# Altium footprint library Connectors.PcbLib: 21 footprints (part 1 of 2)
Each footprint in its own frame and in the unit in brackets; x right, y up, seen from the top. Pads: shape width x height; smd on the part's side, far side on the other; paste and mask are expansions set on the pad; w line width, h text height; cw(c..) or ccw(c..) is an arc to the next point about the centre after c.
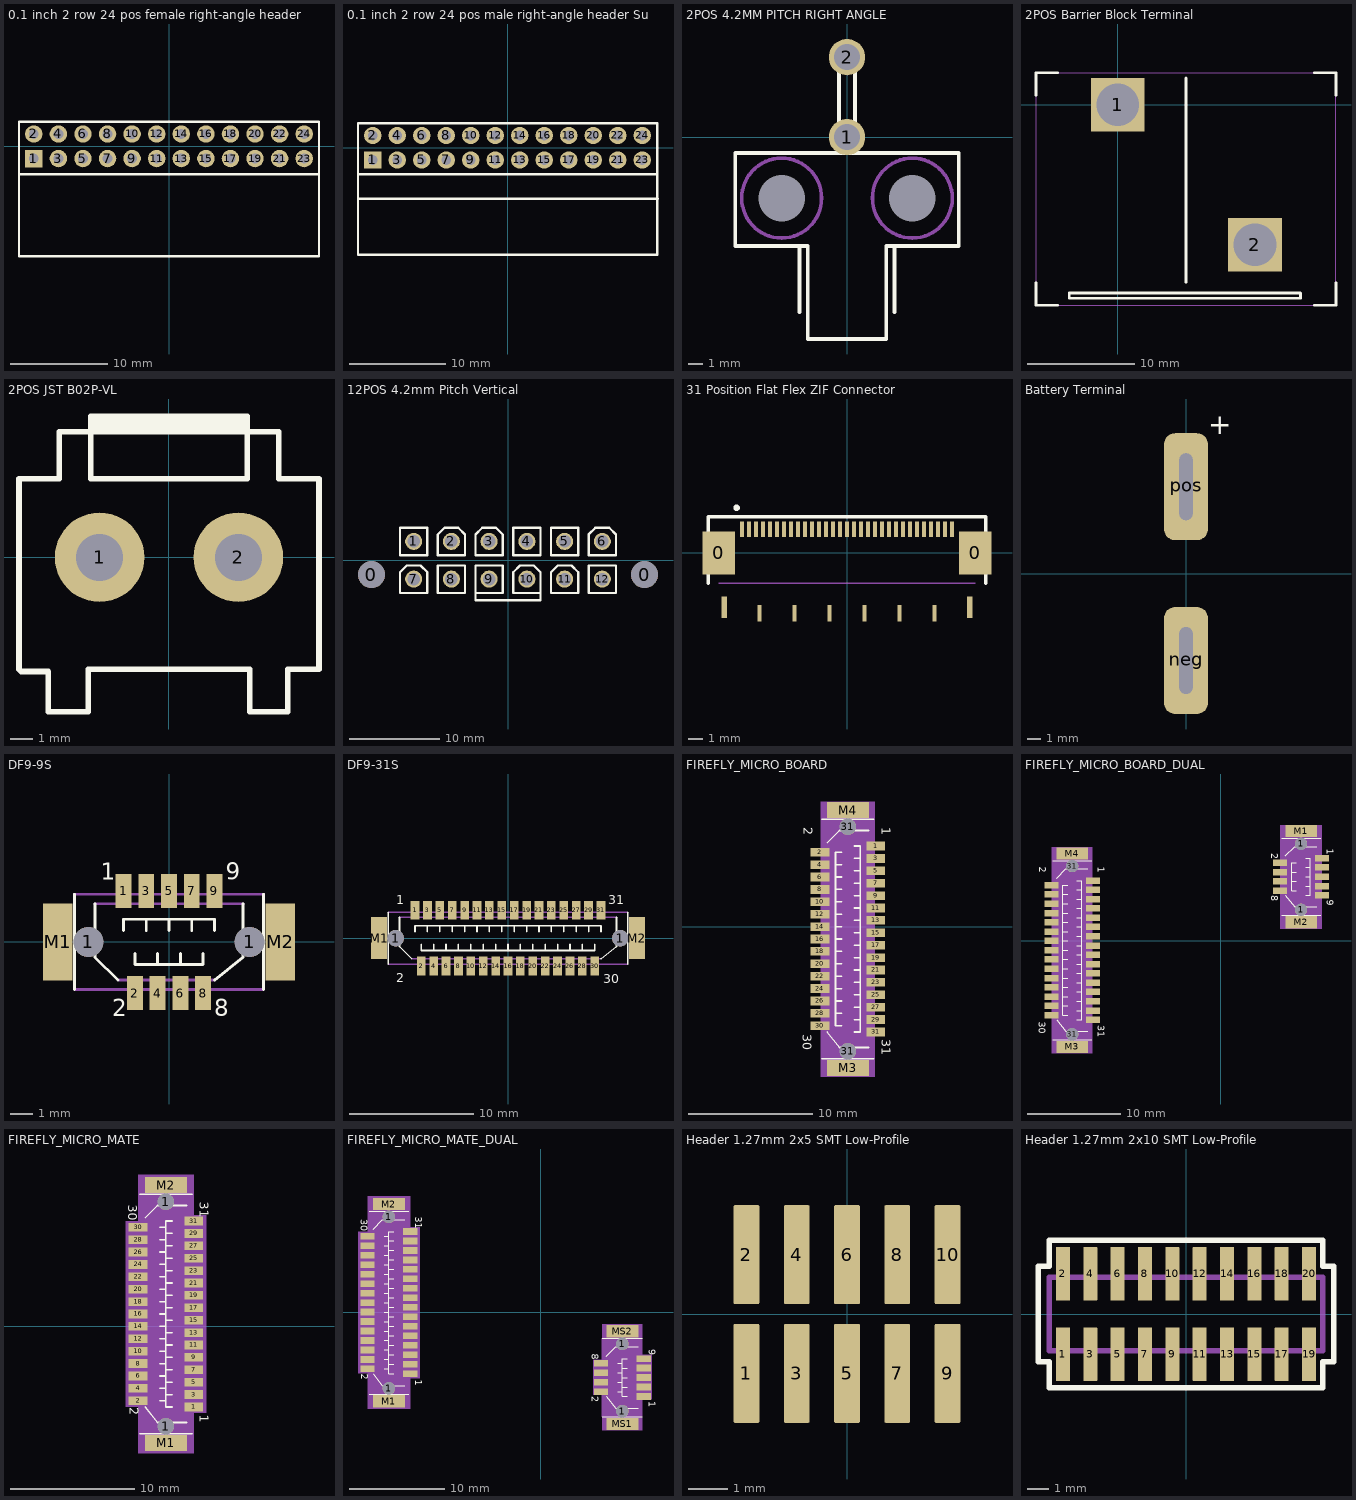
[diagram p0: the footprints below, top view; thin cyan lines are the x and y axes]

## 0.1 inch 2 row 24 pos female right-angle header Sullins [mm] "Sullins 0.1\" Dual row 24 position female right-angle header"
height 5.08
pads (24):
  rect 1.8x1.8 hole 1.02: 1(-13.97,-1.27)
  round 1.8 hole 1.02: 2(-13.97,1.27) 3(-11.43,-1.27) 4(-11.43,1.27) 5(-8.89,-1.27) 6(-8.89,1.27) 7(-6.35,-1.27) 8(-6.35,1.27) 9(-3.81,-1.27) 10(-3.81,1.27) 11(-1.27,-1.27) 12(-1.27,1.27) 13(1.27,-1.27) 14(1.27,1.27) 15(3.81,-1.27) 16(3.81,1.27) 17(6.35,-1.27) 18(6.35,1.27) 19(8.89,-1.27) 20(8.89,1.27) 21(11.43,-1.27) 22(11.43,1.27) 23(13.97,-1.27) 24(13.97,1.27)
Top Overlay:
  lines w0.254: -15.5,-2.87 15.5,-2.87 ; -15.5,-11.37 -15.5,2.54 15.5,2.54 15.5,-11.37 -15.5,-11.37
Mechanical 1:
  text "11.37MM / FROM / CENTER" at 2.235,-9.798 h1
3D body "sullins.step": height 5.08, standoff -3.15, extent -15.49,-11.34 15.49,1.5

## 0.1 inch 2 row 24 pos male right-angle header Sullins [mm] "Sullins 0.1\" Dual row 24 position male right-angle header"
height 5.08
pads (24):
  rect 1.8x1.8 hole 1.02: 1(-13.97,-1.27)
  round 1.8 hole 1.02: 2(-13.97,1.27) 3(-11.43,-1.27) 4(-11.43,1.27) 5(-8.89,-1.27) 6(-8.89,1.27) 7(-6.35,-1.27) 8(-6.35,1.27) 9(-3.81,-1.27) 10(-3.81,1.27) 11(-1.27,-1.27) 12(-1.27,1.27) 13(1.27,-1.27) 14(1.27,1.27) 15(3.81,-1.27) 16(3.81,1.27) 17(6.35,-1.27) 18(6.35,1.27) 19(8.89,-1.27) 20(8.89,1.27) 21(11.43,-1.27) 22(11.43,1.27) 23(13.97,-1.27) 24(13.97,1.27)
Top Overlay:
  lines w0.254: -15.5,-2.77 15.5,-2.77 ; -15.4,-5.29 15.6,-5.29 ; -15.5,-11.1 15.5,-11.1 15.5,2.54 -15.5,2.54 -15.5,-11.1
Mechanical 1:
  text "5.29MM / FROM / CENTER" at 2.235,-9.798 h1
3D body "PREC012DBAN-M71RC.STEP": height 5.04, standoff -3.01, extent -15.24,-11.12 15.24,1.6

## 2POS 4.2MM PITCH RIGHT ANGLE [mm] "2position 4.2mm picth right angle with screw support (TE 1586043-2)"
pads (4):
  round 0 hole 3.2 unplated: 0(-4.5,-4.2) 0(4.5,-4.2)
  round 2.5 hole 1.8: 1(0,0) 2(0,5.5)
Top Overlay:
  lines w0.254: -3.275,-12.061 -3.275,-7.5 ; -0.55,-1.1 -0.55,6.05 0.55,6.05 0.55,-1.1 ; 3.275,-12.061 3.275,-7.5 ; -7.7,-7.5 -2.7,-7.5 -2.7,-13.9 2.7,-13.9 2.7,-7.5 7.7,-7.5 7.7,-1.1 -7.7,-1.1 -7.7,-7.5
Mechanical 1:
  circle w0.254: c-4.5,-4.2 r2.75
  circle w0.254: c4.5,-4.2 r2.75
3D body "c-1586043-2-a-3d.stp": height 10.9, standoff -3.6, extent -7.7,-13.9 7.7,6.06

## 2POS Barrier Block Terminal [mm] "CONN BARRIER STRIP 2CIRC 0.5\""
height 21.6
pads (2):
  rect 5x5 hole 3.96: 1(0,0) 2(12.766,-13.018)
Top Overlay:
  lines w0.25: -7.6,-16.56 -7.6,-18.63 -5.6,-18.63 ; -7.6,0.9 -7.6,2.97 ; 6.35,-16.5 6.35,2.5 ; 18.3,-18.63 20.3,-18.63 20.3,-16.56 ; 18.3,2.97 20.3,2.97 20.3,0.9 ; -7.6,2.97 -5.6,2.97 -7.6,2.97 ; -4.5,-18 -4.5,-17.5 17,-17.5 17,-18 -4.5,-18
Mechanical 1:
  lines w0.1: -7.6,-18.63 -7.6,2.97 20.3,2.97 20.3,-18.63 -7.6,-18.63
3D body "386608802.stp": height 22.61, standoff -4.06, extent -7.64,-18.62 20.3,2.97

## 2POS JST B02P-VL [mm] "CONN HEADER 2POS VL SERIES TIN"
height 29
pads (2):
  round 4 hole 2.1: 1(-3.1,0) 2(3.1,0)
Top Overlay:
  lines w0.25: -3.5,5.9 3.5,5.9 3.5,5.8 ; -3.5,6.1 3.5,6.1 3.5,5.8 ; -3.5,5.6 -3.5,5.7 3.5,5.7 3.5,5.8 ; -3.5,5.6 3.5,5.6 ; -3.5,5.6 -3.5,6.3 3.5,6.3 3.5,5.6 ; -3.5,5.6 -3.5,3.5 3.5,3.5 3.5,5.6 ; -3.5,5.6 -4,5.6 -4.9,5.6 -4.9,3.5 -6.7,3.5 -6.7,-5 -6.6,-5.1 -6.1,-5.1 -5.4,-5.1 -5.4,-6.9 -3.6,-6.9 -3.6,-5 -0.8,-5 3.5,-5 3.6,-5 3.6,-5.3 3.6,-6.9 5.1,-6.9 5.3,-6.9 5.3,-5 6.7,-5 ; 3.5,5.6 4.4,5.6 4.9,5.6 4.9,3.5 6.7,3.5 ; 6.7,-5 6.7,-5 ; 6.7,-5 6.7,-4.4 6.7,3.5 ; 6.7,3.5 6.7,3.5
3D body "B02P-VL.STEP": height 16.4, standoff -3.6, extent -6.7,-6.9 6.7,6.3

## 12POS 4.2mm Pitch Vertical [mm] "TE Connectivity 1-1586586-2"
pads (14):
  round 3 hole 3 unplated: 0(-15.2,-1.6) 0(15.2,-1.6)
  round 1.9 hole 1.4: 1(-10.5,2.1) 2(-6.3,2.1) 3(-2.1,2.1) 4(2.1,2.1) 5(6.3,2.1) 6(10.5,2.1) 7(-10.5,-2.1) 8(-6.3,-2.1) 9(-2.1,-2.1) 10(2.1,-2.1) 11(6.3,-2.1) 12(10.5,-2.1)
Top Overlay:
  lines w0.254: -3.624,-3.633 -0.576,-3.633 -0.576,-0.585 -3.624,-0.585 -3.624,-4.445 3.624,-4.445 3.624,-1.338 2.871,-0.585 1.329,-0.585 0.576,-1.338 0.576,-3.633 3.624,-3.633 ; -12.024,-3.633 -8.976,-3.633 -8.976,-1.338 -9.729,-0.585 -11.271,-0.585 -12.024,-1.338 -12.024,-3.633 ; -12.024,0.567 -8.976,0.567 -8.976,3.615 -12.024,3.615 -12.024,0.567 ; -7.824,-3.633 -7.824,-0.585 -4.776,-0.585 -4.776,-3.633 -7.824,-3.633 ; -7.824,0.567 -7.824,2.862 -7.071,3.615 -5.529,3.615 -4.776,2.862 -4.776,0.567 -7.824,0.567 ; -3.624,0.567 -3.624,2.862 -2.871,3.615 -1.329,3.615 -0.576,2.862 -0.576,0.567 -3.624,0.567 ; 0.576,0.567 0.576,3.615 3.624,3.615 3.624,0.567 0.576,0.567 ; 4.776,-3.633 4.776,-1.338 5.529,-0.585 7.071,-0.585 7.824,-1.338 7.824,-3.633 4.776,-3.633 ; 4.776,0.567 4.776,3.615 7.824,3.615 7.824,0.567 4.776,0.567 ; 8.976,-3.633 8.976,-0.585 12.024,-0.585 12.024,-3.633 8.976,-3.633 ; 8.976,0.567 8.976,2.862 9.729,3.615 11.271,3.615 12.024,2.862 12.024,0.567 8.976,0.567
Mechanical 1:
  text "Conn. Mounts Upward" at -13.843,-6.604 h1.52

## 31 Position Flat Flex ZIF Connector [mm] "TE 3-1734839-1 31 Position Flat Flex ZIF Connector"
height 2.05
pads (41):
  rect 2.3x3.1 smd: 0(-9.15,0) 0(9.15,0)
  rect 0.4x1.55 smd mask+0.02: 0(-8.75,-3.875) 0(8.75,-3.875)
  rect 0.3x1.2 smd mask+0.02: 0(-6.25,-4.3) 0(-3.75,-4.3) 0(-1.25,-4.3) 0(1.25,-4.3) 0(3.75,-4.3) 0(6.25,-4.3)
  rect 0.3x1.1 smd mask+0.02: 1(-7.5,1.7) 2(-7,1.7) 3(-6.5,1.7) 4(-6,1.7) 5(-5.5,1.7) 6(-5,1.7) 7(-4.5,1.7) 8(-4,1.7) 9(-3.5,1.7) 10(-3,1.7) 11(-2.5,1.7) 12(-2,1.7) 13(-1.5,1.7) 14(-1,1.7) 15(-0.5,1.7) 16(0,1.7) 17(0.5,1.7) 18(1,1.7) 19(1.5,1.7) 20(2,1.7) 21(2.5,1.7) 22(3,1.7) 23(3.5,1.7) 24(4,1.7) 25(4.5,1.7) 26(5,1.7) 27(5.5,1.7) 28(6,1.7) 29(6.5,1.7) 30(7,1.7) 31(7.5,1.7)
Top Overlay:
  circle w0.254: c-7.874,3.224 r0.104
  lines w0.254: -9.906,-2.15 -9.906,2.589 9.906,2.589 9.906,-2.15
Mechanical 1:
  lines w0.1: -9.15,-2.15 9.15,-2.15
3D body "c-3-1734839-1-c-3d.stp": height 2, standoff -0.05, extent -10.466,-3.068 10.464,2.042

## Battery Terminal [mm] "Battery terminal for the firefly case"
pads (2):
  rrect50% 3.3x8 hole 1 slot 5 at 90 deg: neg(0,-6.5) pos(0,6.5)
Top Overlay:
  text "+" at 1.651,10.414 h1.52

## DF9-9S [mil]
pads (13):
  round 52 hole 52: 1(-139.76,0) 1(139.76,0)
  rect 27.56x59.06 smd: 1(-78.74,88.58) 2(-59.06,-88.58) 3(-39.37,88.58) 4(-19.69,-88.58) 5(0,88.58) 6(19.69,-88.58) 7(39.37,88.58) 8(59.06,-88.58) 9(78.74,88.58)
  rect 51.18x133.86 smd: M1(-192.91,0) M2(192.91,0)
Top Overlay:
  lines w5: -163.39,-82.68 -163.39,82.68 ; -127.95,66.14 -127.95,-26.77 -88.58,-66.14 ; -78.74,19.69 -78.74,39.37 -39.37,39.37 ; -59.06,-19.69 -59.06,-39.37 -19.69,-39.37 ; -39.37,19.69 -39.37,39.37 ; -19.69,-19.69 -19.69,-39.37 ; 0,19.69 0,39.37 ; 19.69,-19.69 19.69,-39.37 ; 39.37,19.69 39.37,39.37 ; 59.06,-19.69 59.06,-39.37 19.69,-39.37 ; 78.74,-66.14 127.95,-26.77 127.95,66.14 ; 78.74,19.69 78.74,39.37 39.37,39.37 ; 163.39,-82.68 163.39,82.68 ; -39.37,39.37 0,39.37 ; -19.69,-39.37 19.69,-39.37 ; 0,39.37 39.37,39.37
  text "1" at -118.11,98.43 h49.6
  text "2" at -98.43,-137.8 h49.6
  text "8" at 78.74,-137.8 h49.6
  text "9" at 98.43,98.43 h49.6
Mechanical 16:
  lines w5: -163.39,-82.68 163.39,-82.68 ; -163.39,82.68 163.39,82.68 ; -127.95,66.14 127.95,66.14 ; -88.58,-66.14 78.74,-66.14

## DF9-31S [mm]
pads (35):
  round 1.321 hole 1.321: 1(-9.05,0) 1(9.05,0)
  rect 0.7x1.5 smd: 1(-7.5,2.25) 2(-7,-2.25) 3(-6.5,2.25) 4(-6,-2.25) 5(-5.5,2.25) 6(-5,-2.25) 7(-4.5,2.25) 8(-4,-2.25) 9(-3.5,2.25) 10(-3,-2.25) 11(-2.5,2.25) 12(-2,-2.25) 13(-1.5,2.25) 14(-1,-2.25) 15(-0.5,2.25) 16(0,-2.25) 17(0.5,2.25) 18(1,-2.25) 19(1.5,2.25) 20(2,-2.25) 21(2.5,2.25) 22(3,-2.25) 23(3.5,2.25) 24(4,-2.25) 25(4.5,2.25) 26(5,-2.25) 27(5.5,2.25) 28(6,-2.25) 29(6.5,2.25) 30(7,-2.25) 31(7.5,2.25)
  rect 1.3x3.4 smd: M1(-10.4,0) M2(10.4,0)
Top Overlay:
  lines w0.127: -9.65,-2.1 -9.65,2.1 ; -8.75,1.68 -8.75,-0.68 -7.75,-1.68 ; -7.5,0.5 -7.5,1 -6.5,1 ; -7,-0.5 -7,-1 -6,-1 ; -6.5,0.5 -6.5,1 ; -6,-0.5 -6,-1 ; -5.5,0.5 -5.5,1 ; -5,-0.5 -5,-1 ; -4.5,0.5 -4.5,1 ; -4,-0.5 -4,-1 ; -3.5,0.5 -3.5,1 ; -3,-0.5 -3,-1 ; -2.5,0.5 -2.5,1 ; -2,-0.5 -2,-1 ; -1.5,0.5 -1.5,1 ; -1,-0.5 -1,-1 ; -0.5,0.5 -0.5,1 ; 0,-0.5 0,-1 ; 0.5,0.5 0.5,1 ; 1,-0.5 1,-1 ; 1.5,0.5 1.5,1 ; 2,-0.5 2,-1 ; 2.5,0.5 2.5,1 ; 3,-0.5 3,-1 ; 3.5,0.5 3.5,1 ; 4,-0.5 4,-1 ; 4.5,0.5 4.5,1 ; 5,-0.5 5,-1 ; 5.5,0.5 5.5,1 ; 6,-0.5 6,-1 ; 6.5,0.5 6.5,1 ; 7,-0.5 7,-1 6,-1 ; 7.5,-1.68 8.75,-0.68 8.75,1.68 ; 7.5,0.5 7.5,1 6.5,1 ; 9.65,-2.1 9.65,2.1 ; -6.5,1 -5.5,1 ; -6,-1 -5,-1 ; -5.5,1 -4.5,1 ; -5,-1 -4,-1 ; -4.5,1 -3.5,1 ; -4,-1 -3,-1 ; -3.5,1 -2.5,1 ; -3,-1 -2,-1 ; -2.5,1 -1.5,1 ; -2,-1 -1,-1 ; -1.5,1 -0.5,1 ; -1,-1 0,-1 ; -0.5,1 0.5,1 ; 0,-1 1,-1 ; 0.5,1 1.5,1 ; 1,-1 2,-1 ; 1.5,1 2.5,1 ; 2,-1 3,-1 ; 2.5,1 3.5,1 ; 3,-1 4,-1 ; 3.5,1 4.5,1 ; 4,-1 5,-1 ; 4.5,1 5.5,1 ; 5,-1 6,-1 ; 5.5,1 6.5,1
  text "31" at 8.1,2.5 h1.26
  text "30" at 7.7,-3.9 h1.26
  text "2" at -9,-3.8 h1.26
  text "1" at -9,2.5 h1.26
Mechanical 16:
  lines w0.127: -9.65,-2.1 9.65,-2.1 ; -9.65,2.1 9.65,2.1 ; -8.75,1.68 8.75,1.68 ; -7.75,-1.68 7.5,-1.68

## FIREFLY_MICRO_BOARD [mil]
pads (35):
  rect 59.06x27.56 smd: 1(-541.67,255.86) 2(-718.83,236.17) 3(-541.67,216.49) 4(-718.83,196.8) 5(-541.67,177.12) 6(-718.83,157.43) 7(-541.67,137.75) 8(-718.83,118.06) 9(-541.67,98.38) 10(-718.83,78.69) 11(-541.67,59.01) 12(-718.83,39.32) 13(-541.67,19.64) 14(-718.83,-0.05) 15(-541.67,-19.73) 16(-718.83,-39.42) 17(-541.67,-59.1) 18(-718.83,-78.79) 19(-541.67,-98.47) 20(-718.83,-118.16) 21(-541.67,-137.84) 22(-718.83,-157.53) 23(-541.67,-177.21) 24(-718.83,-196.9) 25(-541.67,-216.58) 26(-718.83,-236.27) 27(-541.67,-255.95) 28(-718.83,-275.64) 29(-541.67,-295.32) 30(-718.83,-315.01) 31(-541.67,-334.69)
  round 52 hole 52: 31(-630.25,-395.72) 31(-630.25,316.88)
  rect 133.86x51.18 smd: M3(-630.25,-448.87) M4(-630.25,370.03)
Top Overlay:
  lines w5: -712.93,-419.34 -547.57,-419.34 ; -712.93,340.5 -547.57,340.5 ; -696.39,-334.69 -657.02,-383.91 -564.11,-383.91 ; -696.39,265.7 -657.02,305.07 -564.11,305.07 ; -649.94,-315.01 -669.62,-315.01 -669.62,-275.64 ; -649.94,-275.64 -669.62,-275.64 ; -649.94,-236.27 -669.62,-236.27 ; -649.94,-196.9 -669.62,-196.9 ; -649.94,-157.53 -669.62,-157.53 ; -649.94,-118.16 -669.62,-118.16 ; -649.94,-78.79 -669.62,-78.79 ; -649.94,-39.42 -669.62,-39.42 ; -649.94,-0.05 -669.62,-0.05 ; -649.94,39.32 -669.62,39.32 ; -649.94,78.69 -669.62,78.69 ; -649.94,118.06 -669.62,118.06 ; -649.94,157.43 -669.62,157.43 ; -649.94,196.8 -669.62,196.8 ; -649.94,236.17 -669.62,236.17 -669.62,196.8 ; -610.57,-334.69 -590.88,-334.69 -590.88,-295.32 ; -610.57,-295.32 -590.88,-295.32 ; -610.57,-255.95 -590.88,-255.95 ; -610.57,-216.58 -590.88,-216.58 ; -610.57,-177.21 -590.88,-177.21 ; -610.57,-137.84 -590.88,-137.84 ; -610.57,-98.47 -590.88,-98.47 ; -610.57,-59.1 -590.88,-59.1 ; -610.57,-19.73 -590.88,-19.73 ; -610.57,19.64 -590.88,19.64 ; -610.57,59.01 -590.88,59.01 ; -610.57,98.38 -590.88,98.38 ; -610.57,137.75 -590.88,137.75 ; -610.57,177.12 -590.88,177.12 ; -610.57,216.49 -590.88,216.49 ; -610.57,255.86 -590.88,255.86 -590.88,216.49 ; -669.62,-275.64 -669.62,-236.27 ; -669.62,-236.27 -669.62,-196.9 ; -669.62,-196.9 -669.62,-157.53 ; -669.62,-157.53 -669.62,-118.16 ; -669.62,-118.16 -669.62,-78.79 ; -669.62,-78.79 -669.62,-39.42 ; -669.62,-39.42 -669.62,-0.05 ; -669.62,-0.05 -669.62,39.32 ; -669.62,39.32 -669.62,78.69 ; -669.62,78.69 -669.62,118.06 ; -669.62,118.06 -669.62,157.43 ; -669.62,157.43 -669.62,196.8 ; -590.88,-295.32 -590.88,-255.95 ; -590.88,-255.95 -590.88,-216.58 ; -590.88,-216.58 -590.88,-177.21 ; -590.88,-177.21 -590.88,-137.84 ; -590.88,-137.84 -590.88,-98.47 ; -590.88,-98.47 -590.88,-59.1 ; -590.88,-59.1 -590.88,-19.73 ; -590.88,-19.73 -590.88,19.64 ; -590.88,19.64 -590.88,59.01 ; -590.88,59.01 -590.88,98.38 ; -590.88,98.38 -590.88,137.75 ; -590.88,137.75 -590.88,177.12 ; -590.88,177.12 -590.88,216.49
  text "1" at -531.83,314.91 h49.6
  text "2" at -779.86,314.91 h49.6
  text "30" at -783.8,-342.57 h49.6
  text "31" at -531.83,-358.32 h49.6
Mechanical 16:
  lines w5: -712.93,-419.34 -712.93,340.5 ; -696.39,-334.69 -696.39,265.7 ; -564.11,-383.91 -564.11,305.07 ; -547.57,-419.34 -547.57,340.5
Mechanical 27:
  rectangle: -717.24,-477.02 -544.01,396.99
3D body "DF9-31S-1V.stp": height 129.92, standoff -31.5, extent -740.49,-453.87 -520.02,376.84

## FIREFLY_MICRO_BOARD_DUAL [mil]
pads (48):
  rect 59.06x27.56 smd: 1(-541.67,255.86) 2(-718.83,236.17) 3(-541.67,216.49) 4(-718.83,196.8) 5(-541.67,177.12) 6(-718.83,157.43) 7(-541.67,137.75) 8(-718.83,118.06) 9(-541.67,98.38) 10(-718.83,78.69) 11(-541.67,59.01) 12(-718.83,39.32) 13(-541.67,19.64) 14(-718.83,-0.05) 15(-541.67,-19.73) 16(-718.83,-39.42) 17(-541.67,-59.1) 18(-718.83,-78.79) 19(-541.67,-98.47) 20(-718.83,-118.16) 21(-541.67,-137.84) 22(-718.83,-157.53) 23(-541.67,-177.21) 24(-718.83,-196.9) 25(-541.67,-216.58) 26(-718.83,-236.27) 27(-541.67,-255.95) 28(-718.83,-275.64) 29(-541.67,-295.32) 30(-718.83,-315.01) 31(-541.67,-334.69) P1(428.11,350.66) P2(250.94,330.98) P3(428.11,311.29) P4(250.94,291.61) P5(428.11,271.92) P6(250.94,252.24) P7(428.11,232.55) P8(250.94,212.87) P9(428.11,193.18)
  round 52 hole 52: 1(339.53,132.16) 1(339.53,411.69) 31(-630.25,-395.72) 31(-630.25,316.88)
  rect 133.86x51.18 smd: M1(339.53,464.83) M2(339.53,79.01) M3(-630.25,-448.87) M4(-630.25,370.03)
Top Overlay:
  lines w5: -712.93,-419.34 -547.57,-419.34 ; -712.93,340.5 -547.57,340.5 ; -696.39,-334.69 -657.02,-383.91 -564.11,-383.91 ; -696.39,265.7 -657.02,305.07 -564.11,305.07 ; -649.94,-315.01 -669.62,-315.01 -669.62,-275.64 ; -649.94,-275.64 -669.62,-275.64 ; -649.94,-236.27 -669.62,-236.27 ; -649.94,-196.9 -669.62,-196.9 ; -649.94,-157.53 -669.62,-157.53 ; -649.94,-118.16 -669.62,-118.16 ; -649.94,-78.79 -669.62,-78.79 ; -649.94,-39.42 -669.62,-39.42 ; -649.94,-0.05 -669.62,-0.05 ; -649.94,39.32 -669.62,39.32 ; -649.94,78.69 -669.62,78.69 ; -649.94,118.06 -669.62,118.06 ; -649.94,157.43 -669.62,157.43 ; -649.94,196.8 -669.62,196.8 ; -649.94,236.17 -669.62,236.17 -669.62,196.8 ; -610.57,-334.69 -590.88,-334.69 -590.88,-295.32 ; -610.57,-295.32 -590.88,-295.32 ; -610.57,-255.95 -590.88,-255.95 ; -610.57,-216.58 -590.88,-216.58 ; -610.57,-177.21 -590.88,-177.21 ; -610.57,-137.84 -590.88,-137.84 ; -610.57,-98.47 -590.88,-98.47 ; -610.57,-59.1 -590.88,-59.1 ; -610.57,-19.73 -590.88,-19.73 ; -610.57,19.64 -590.88,19.64 ; -610.57,59.01 -590.88,59.01 ; -610.57,98.38 -590.88,98.38 ; -610.57,137.75 -590.88,137.75 ; -610.57,177.12 -590.88,177.12 ; -610.57,216.49 -590.88,216.49 ; -610.57,255.86 -590.88,255.86 -590.88,216.49 ; 256.85,108.54 422.2,108.54 ; 256.85,435.31 422.2,435.31 ; 273.39,193.18 312.76,143.97 405.67,143.97 ; 273.39,360.5 312.76,399.87 405.67,399.87 ; 319.84,212.87 300.16,212.87 300.16,252.24 ; 319.84,252.24 300.16,252.24 ; 319.84,291.61 300.16,291.61 ; 319.84,330.98 300.16,330.98 300.16,291.61 ; 359.21,193.18 378.9,193.18 378.9,232.55 ; 359.21,232.55 378.9,232.55 ; 359.21,271.92 378.9,271.92 ; 359.21,311.29 378.9,311.29 ; 359.21,350.66 378.9,350.66 378.9,311.29 ; -669.62,-275.64 -669.62,-236.27 ; -669.62,-236.27 -669.62,-196.9 ; -669.62,-196.9 -669.62,-157.53 ; -669.62,-157.53 -669.62,-118.16 ; -669.62,-118.16 -669.62,-78.79 ; -669.62,-78.79 -669.62,-39.42 ; -669.62,-39.42 -669.62,-0.05 ; -669.62,-0.05 -669.62,39.32 ; -669.62,39.32 -669.62,78.69 ; -669.62,78.69 -669.62,118.06 ; -669.62,118.06 -669.62,157.43 ; -669.62,157.43 -669.62,196.8 ; -590.88,-295.32 -590.88,-255.95 ; -590.88,-255.95 -590.88,-216.58 ; -590.88,-216.58 -590.88,-177.21 ; -590.88,-177.21 -590.88,-137.84 ; -590.88,-137.84 -590.88,-98.47 ; -590.88,-98.47 -590.88,-59.1 ; -590.88,-59.1 -590.88,-19.73 ; -590.88,-19.73 -590.88,19.64 ; -590.88,19.64 -590.88,59.01 ; -590.88,59.01 -590.88,98.38 ; -590.88,98.38 -590.88,137.75 ; -590.88,137.75 -590.88,177.12 ; -590.88,177.12 -590.88,216.49 ; 300.16,252.24 300.16,291.61 ; 378.9,232.55 378.9,271.92 ; 378.9,271.92 378.9,311.29
  text "1" at -531.83,314.91 h49.6
  text "2" at -779.86,314.91 h49.6
  text "30" at -783.8,-342.57 h49.6
  text "31" at -531.83,-358.32 h49.6
  text "1" at 437.95,390.03 h49.6
  text "2" at 201.73,370.35 h49.6
  text "8" at 201.73,193.18 h49.6
  text "9" at 437.95,173.5 h49.6
Mechanical 16:
  lines w5: -712.93,-419.34 -712.93,340.5 ; -696.39,-334.69 -696.39,265.7 ; -564.11,-383.91 -564.11,305.07 ; -547.57,-419.34 -547.57,340.5 ; 256.85,108.54 256.85,435.31 ; 273.39,193.18 273.39,360.5 ; 405.67,143.97 405.67,399.87 ; 422.2,108.54 422.2,435.31
Mechanical 27:
  rectangle: -717.24,-477.02 -544.01,396.99
  rectangle: 251.27,50.54 428.43,491.48
3D body "DF9-31S-1V.stp": height 129.92, standoff -31.5, extent -740.47,-455.36 -520,375.36
3D body "DF9-9S-1V.stp": height 129.92, standoff -39.37, extent 230,72.36 450.47,470

## FIREFLY_MICRO_MATE [mil]
pads (35):
  round 52 hole 52: 1(-630.25,-316.8) 1(-630.25,395.8)
  rect 59.06x27.56 smd: 1(-541.67,-255.78) 2(-718.83,-236.09) 3(-541.67,-216.41) 4(-718.83,-196.72) 5(-541.67,-177.04) 6(-718.83,-157.35) 7(-541.67,-137.67) 8(-718.83,-117.98) 9(-541.67,-98.3) 10(-718.83,-78.61) 11(-541.67,-58.93) 12(-718.83,-39.24) 13(-541.67,-19.56) 14(-718.83,0.13) 15(-541.67,19.81) 16(-718.83,39.5) 17(-541.67,59.18) 18(-718.83,78.87) 19(-541.67,98.55) 20(-718.83,118.24) 21(-541.67,137.92) 22(-718.83,157.61) 23(-541.67,177.29) 24(-718.83,196.98) 25(-541.67,216.66) 26(-718.83,236.35) 27(-541.67,256.03) 28(-718.83,275.72) 29(-541.67,295.4) 30(-718.83,315.09) 31(-541.67,334.77)
  rect 133.86x51.18 smd: M1(-630.25,-369.95) M2(-630.25,448.94)
Top Overlay:
  lines w5: -712.93,-340.43 -547.57,-340.43 ; -712.93,419.42 -547.57,419.42 ; -696.39,-255.78 -657.02,-304.99 -564.11,-304.99 ; -696.39,344.61 -657.02,383.98 -564.11,383.98 ; -649.94,-236.09 -630.25,-236.09 ; -649.94,-196.72 -630.25,-196.72 ; -649.94,-157.35 -630.25,-157.35 ; -649.94,-117.98 -630.25,-117.98 ; -649.94,-78.61 -630.25,-78.61 ; -649.94,-39.24 -630.25,-39.24 ; -649.94,0.13 -630.25,0.13 ; -649.94,39.5 -630.25,39.5 ; -649.94,78.87 -630.25,78.87 ; -649.94,118.24 -630.25,118.24 ; -649.94,157.61 -630.25,157.61 ; -649.94,196.98 -630.25,196.98 ; -649.94,236.35 -630.25,236.35 ; -649.94,275.72 -630.25,275.72 ; -649.94,315.09 -630.25,315.09 ; -610.57,-255.78 -630.25,-255.78 -630.25,-236.09 ; -610.57,-216.41 -630.25,-216.41 ; -610.57,-177.04 -630.25,-177.04 ; -610.57,-137.67 -630.25,-137.67 ; -610.57,-98.3 -630.25,-98.3 ; -610.57,-58.93 -630.25,-58.93 ; -610.57,-19.56 -630.25,-19.56 ; -610.57,19.81 -630.25,19.81 ; -610.57,59.18 -630.25,59.18 ; -610.57,98.55 -630.25,98.55 ; -610.57,137.92 -630.25,137.92 ; -610.57,177.29 -630.25,177.29 ; -610.57,216.66 -630.25,216.66 ; -610.57,256.03 -630.25,256.03 ; -610.57,295.4 -630.25,295.4 ; -610.57,334.77 -630.25,334.77 -630.25,315.09 ; -630.25,-236.09 -630.25,-216.41 ; -630.25,-216.41 -630.25,-196.72 ; -630.25,-196.72 -630.25,-177.04 ; -630.25,-177.04 -630.25,-157.35 ; -630.25,-157.35 -630.25,-137.67 ; -630.25,-137.67 -630.25,-117.98 ; -630.25,-117.98 -630.25,-98.3 ; -630.25,-98.3 -630.25,-78.61 ; -630.25,-78.61 -630.25,-58.93 ; -630.25,-58.93 -630.25,-39.24 ; -630.25,-39.24 -630.25,-19.56 ; -630.25,-19.56 -630.25,0.13 ; -630.25,0.13 -630.25,19.81 ; -630.25,19.81 -630.25,39.5 ; -630.25,39.5 -630.25,59.18 ; -630.25,59.18 -630.25,78.87 ; -630.25,78.87 -630.25,98.55 ; -630.25,98.55 -630.25,118.24 ; -630.25,118.24 -630.25,137.92 ; -630.25,137.92 -630.25,157.61 ; -630.25,157.61 -630.25,177.29 ; -630.25,177.29 -630.25,196.98 ; -630.25,196.98 -630.25,216.66 ; -630.25,216.66 -630.25,236.35 ; -630.25,236.35 -630.25,256.03 ; -630.25,256.03 -630.25,275.72 ; -630.25,275.72 -630.25,295.4 ; -630.25,295.4 -630.25,315.09
  text "31" at -531.83,395.6 h49.6
  text "30" at -758.8,386.35 h49.6
  text "2" at -754.86,-256.17 h49.6
  text "1" at -531.83,-281.17 h49.6
Mechanical 16:
  lines w5: -712.93,-340.43 -712.93,419.42 ; -696.39,-255.78 -696.39,344.61 ; -564.11,-304.99 -564.11,383.98 ; -547.57,-340.43 -547.57,419.42
Mechanical 27:
  rectangle: -541.34,-275.55 -501.97,354.37
  rectangle: -757.87,-255.87 -718.5,334.69
  rectangle: -718.5,-403.5 -541.34,482.32
3D body "DF9-31P-1V.stp": height 129.92, standoff -31.5, extent -740.24,-375.71 -519.76,455

## FIREFLY_MICRO_MATE_DUAL [mil]
pads (48):
  round 52 hole 52: 1(-630.25,-316.8) 1(-630.25,395.8) 1(339.53,-411.61) 1(339.53,-132.08)
  rect 59.06x27.56 smd: 1(-541.67,-255.78) 2(-718.83,-236.09) 3(-541.67,-216.41) 4(-718.83,-196.72) 5(-541.67,-177.04) 6(-718.83,-157.35) 7(-541.67,-137.67) 8(-718.83,-117.98) 9(-541.67,-98.3) 10(-718.83,-78.61) 11(-541.67,-58.93) 12(-718.83,-39.24) 13(-541.67,-19.56) 14(-718.83,0.13) 15(-541.67,19.81) 16(-718.83,39.5) 17(-541.67,59.18) 18(-718.83,78.87) 19(-541.67,98.55) 20(-718.83,118.24) 21(-541.67,137.92) 22(-718.83,157.61) 23(-541.67,177.29) 24(-718.83,196.98) 25(-541.67,216.66) 26(-718.83,236.35) 27(-541.67,256.03) 28(-718.83,275.72) 29(-541.67,295.4) 30(-718.83,315.09) 31(-541.67,334.77) S1(428.11,-350.58) S2(250.94,-330.9) S3(428.11,-311.21) S4(250.94,-291.53) S5(428.11,-271.84) S6(250.94,-252.16) S7(428.11,-232.47) S8(250.94,-212.79) S9(428.11,-193.1)
  rect 133.86x51.18 smd: M1(-630.25,-369.95) M2(-630.25,448.94) MS1(339.53,-464.76) MS2(339.53,-78.93)
Top Overlay:
  lines w5: -712.93,-340.43 -547.57,-340.43 ; -712.93,419.42 -547.57,419.42 ; -696.39,-255.78 -657.02,-304.99 -564.11,-304.99 ; -696.39,344.61 -657.02,383.98 -564.11,383.98 ; -649.94,-236.09 -630.25,-236.09 ; -649.94,-196.72 -630.25,-196.72 ; -649.94,-157.35 -630.25,-157.35 ; -649.94,-117.98 -630.25,-117.98 ; -649.94,-78.61 -630.25,-78.61 ; -649.94,-39.24 -630.25,-39.24 ; -649.94,0.13 -630.25,0.13 ; -649.94,39.5 -630.25,39.5 ; -649.94,78.87 -630.25,78.87 ; -649.94,118.24 -630.25,118.24 ; -649.94,157.61 -630.25,157.61 ; -649.94,196.98 -630.25,196.98 ; -649.94,236.35 -630.25,236.35 ; -649.94,275.72 -630.25,275.72 ; -649.94,315.09 -630.25,315.09 ; -610.57,-255.78 -630.25,-255.78 -630.25,-236.09 ; -610.57,-216.41 -630.25,-216.41 ; -610.57,-177.04 -630.25,-177.04 ; -610.57,-137.67 -630.25,-137.67 ; -610.57,-98.3 -630.25,-98.3 ; -610.57,-58.93 -630.25,-58.93 ; -610.57,-19.56 -630.25,-19.56 ; -610.57,19.81 -630.25,19.81 ; -610.57,59.18 -630.25,59.18 ; -610.57,98.55 -630.25,98.55 ; -610.57,137.92 -630.25,137.92 ; -610.57,177.29 -630.25,177.29 ; -610.57,216.66 -630.25,216.66 ; -610.57,256.03 -630.25,256.03 ; -610.57,295.4 -630.25,295.4 ; -610.57,334.77 -630.25,334.77 -630.25,315.09 ; 256.85,-435.23 422.2,-435.23 ; 256.85,-108.46 422.2,-108.46 ; 273.39,-350.58 312.76,-399.8 405.67,-399.8 ; 273.39,-183.26 312.76,-143.89 405.67,-143.89 ; 319.84,-330.9 339.53,-330.9 ; 319.84,-291.53 339.53,-291.53 ; 319.84,-252.16 339.53,-252.16 ; 319.84,-212.79 339.53,-212.79 ; 359.21,-350.58 339.53,-350.58 339.53,-330.9 ; 359.21,-311.21 339.53,-311.21 ; 359.21,-271.84 339.53,-271.84 ; 359.21,-232.47 339.53,-232.47 ; 359.21,-193.1 339.53,-193.1 339.53,-212.79 ; -630.25,-236.09 -630.25,-216.41 ; -630.25,-216.41 -630.25,-196.72 ; -630.25,-196.72 -630.25,-177.04 ; -630.25,-177.04 -630.25,-157.35 ; -630.25,-157.35 -630.25,-137.67 ; -630.25,-137.67 -630.25,-117.98 ; -630.25,-117.98 -630.25,-98.3 ; -630.25,-98.3 -630.25,-78.61 ; -630.25,-78.61 -630.25,-58.93 ; -630.25,-58.93 -630.25,-39.24 ; -630.25,-39.24 -630.25,-19.56 ; -630.25,-19.56 -630.25,0.13 ; -630.25,0.13 -630.25,19.81 ; -630.25,19.81 -630.25,39.5 ; -630.25,39.5 -630.25,59.18 ; -630.25,59.18 -630.25,78.87 ; -630.25,78.87 -630.25,98.55 ; -630.25,98.55 -630.25,118.24 ; -630.25,118.24 -630.25,137.92 ; -630.25,137.92 -630.25,157.61 ; -630.25,157.61 -630.25,177.29 ; -630.25,177.29 -630.25,196.98 ; -630.25,196.98 -630.25,216.66 ; -630.25,216.66 -630.25,236.35 ; -630.25,236.35 -630.25,256.03 ; -630.25,256.03 -630.25,275.72 ; -630.25,275.72 -630.25,295.4 ; -630.25,295.4 -630.25,315.09 ; 339.53,-330.9 339.53,-311.21 ; 339.53,-311.21 339.53,-291.53 ; 339.53,-291.53 339.53,-271.84 ; 339.53,-271.84 339.53,-252.16 ; 339.53,-252.16 339.53,-232.47 ; 339.53,-232.47 339.53,-212.79
  text "1" at -531.83,-281.17 h49.6
  text "2" at -754.86,-256.17 h49.6
  text "30" at -758.8,386.35 h49.6
  text "31" at -531.83,395.6 h49.6
  text "1" at 437.95,-370.27 h49.6
  text "2" at 201.73,-350.58 h49.6
  text "8" at 201.73,-173.42 h49.6
  text "9" at 437.95,-153.73 h49.6
Mechanical 16:
  lines w5: -712.93,-340.43 -712.93,419.42 ; -696.39,-255.78 -696.39,344.61 ; -564.11,-304.99 -564.11,383.98 ; -547.57,-340.43 -547.57,419.42 ; 256.85,-435.23 256.85,-108.46 ; 273.39,-350.58 273.39,-183.26 ; 405.67,-399.8 405.67,-143.89 ; 422.2,-435.23 422.2,-108.46
Mechanical 27:
  rectangle: -718.5,-403.5 -541.34,482.32
  rectangle: -757.87,-255.87 -718.5,334.69
  rectangle: -541.34,-275.55 -501.97,354.37
  rectangle: 255.91,-492.09 423.23,-49.17
  rectangle: 216.54,-344.45 255.91,-196.81
  rectangle: 423.23,-364.13 462.6,-177.13
3D body "DF9-31P-1V.stp": height 129.92, standoff -31.5, extent -740.24,-375.71 -519.76,455
3D body "DF9-9P-1V.stp": height 129.92, standoff -39.37, extent 230,-472.63 450.47,-75

## Header 1.27mm 2x5 SMT Low-Profile [mm] "Header 1.27mm 5x2 SMD"
height 4.5
pads (10):
  rrect10% 0.65x2.5 smd: 1(-2.54,-1.5) 2(-2.54,1.5) 3(-1.27,-1.5) 4(-1.27,1.5) 5(0,-1.5) 6(0,1.5) 7(1.27,-1.5) 8(1.27,1.5) 9(2.54,-1.5) 10(2.54,1.5)
3D body "20021121-00010XXLFc.stp": height 4.48, standoff -0.02, extent -3.175,-2.75 3.175,2.75

## Header 1.27mm 2x10 SMT Low-Profile [mm] "Samtec FTS-110-01-F-DV 1.27mm surface mount header with 20 positions"
pads (20):
  rrect10% 0.65x2.5 smd mask+0.05: 1(-5.715,-1.867) 2(-5.715,1.867) 3(-4.445,-1.867) 4(-4.445,1.867) 5(-3.175,-1.867) 6(-3.175,1.867) 7(-1.905,-1.867) 8(-1.905,1.867) 9(-0.635,-1.867) 10(-0.635,1.867) 11(0.635,-1.867) 12(0.635,1.867) 13(1.905,-1.867) 14(1.905,1.867) 15(3.175,-1.867) 16(3.175,1.867) 17(4.445,-1.867) 18(4.445,1.867) 19(5.715,-1.867) 20(5.715,1.867)
Top Overlay:
  lines w0.254: -6.858,-2.21 -6.339,-2.21 -6.339,-3.429 6.339,-3.429 6.339,-2.215 6.85,-2.215 6.85,2.215 6.339,2.215 6.339,3.429 -6.339,3.429 -6.339,2.215 -6.858,2.215 -6.858,-2.21
Mechanical 1:
  lines w0.254: -5.715,-2.92 -5.715,-1.715 ; -5.715,1.715 -5.715,2.92 ; -4.445,-2.92 -4.445,-1.715 ; -4.445,1.715 -4.445,2.92 ; -3.175,-2.92 -3.175,-1.715 ; -3.175,1.715 -3.175,2.92 ; -1.905,-2.92 -1.905,-1.715 ; -1.905,1.715 -1.905,2.92 ; -0.635,-2.92 -0.635,-1.715 ; -0.635,1.715 -0.635,2.92 ; 0.635,-2.92 0.635,-1.715 ; 0.635,1.715 0.635,2.92 ; 1.905,-2.92 1.905,-1.715 ; 1.905,1.715 1.905,2.92 ; 3.175,-2.92 3.175,-1.715 ; 3.175,1.715 3.175,2.92 ; 4.445,-2.92 4.445,-1.715 ; 4.445,1.715 4.445,2.92 ; 5.715,-2.92 5.715,-1.715 ; 5.715,1.715 5.715,2.92 ; -6.35,-1.715 6.35,-1.715 6.35,1.715 -6.35,1.715 -6.35,-1.715
3D body "FTS-110-01-L-DV.stp": height 4.29, standoff -0.03, extent -6.35,-2.921 6.35,2.921